# Altium footprint library AdMainFPLibG_1.0.PcbLib: 24 footprints (part 2 of 2)
Each footprint in its own frame and in the unit in brackets; x right, y up, seen from the top. Pads: shape width x height; smd on the part's side, far side on the other; paste and mask are expansions set on the pad; w line width, h text height; cw(c..) or ccw(c..) is an arc to the next point about the centre after c.
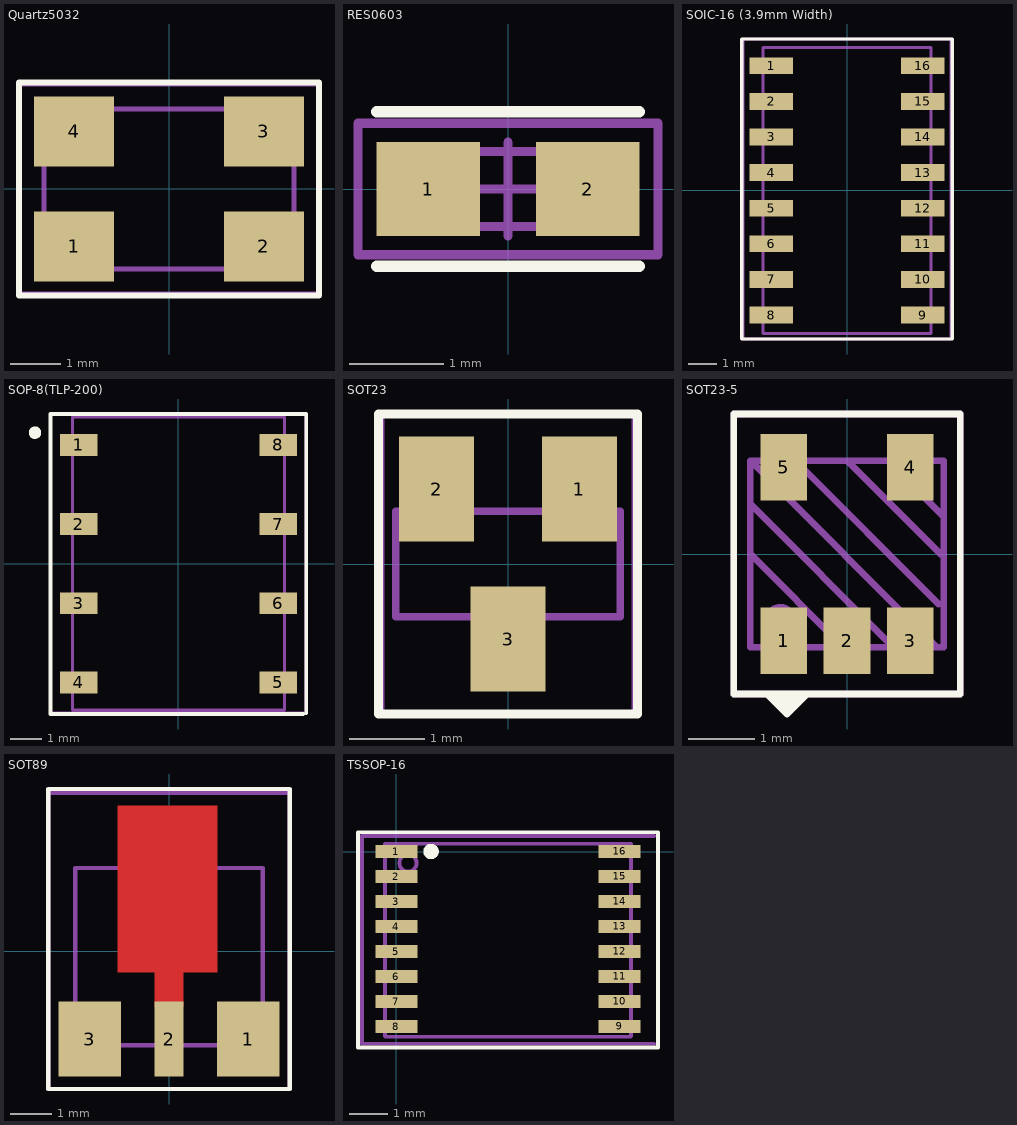
[diagram p1: the footprints below, top view; thin cyan lines are the x and y axes]

## Quartz5032 [mm] "WE-830055663"
height 1
pads (4):
  rect 1.6x1.4 smd: 1(-1.9,-1.15) 2(1.9,-1.15) 3(1.9,1.15) 4(-1.9,1.15)
Top Overlay:
  lines w0.12: -3,-2.125 3,-2.125 ; -3,-2.1 -3,2.125 3,2.125 3,-2.1
Top Assy:
  lines w0.1: -2.5,-1.6 2.5,-1.6 2.5,1.6 -2.5,1.6 -2.5,-1.6
Border:
  lines w0.1: -3,-2.1 3,-2.1 3,2.1 -3,2.1 -3,-2.1
3D body "User Library-CRYSTALSMD5X32.STEP": height 1, standoff 0, extent -2.5,-1.6 2.5,1.6

## RES0603 [mm]
pads (2):
  rect 1.1x1 smd: 1(-0.85,0) 2(0.85,0)
Top Overlay:
  lines w0.12: -1.4,-0.825 1.4,-0.825 ; -1.4,0.825 1.4,0.825
Top Assy:
  lines w0.1: -0.8,-0.4 0.8,-0.4 0.8,0.4 -0.8,0.4 -0.8,-0.4
Border:
  lines w0.1: -0.5,0 0.5,0 ; 0,-0.5 0,0.5 ; 0,-0.2 0,0.2 ; -1.6,-0.7 -1.6,0.7 1.6,0.7 1.6,-0.7 -1.6,-0.7
3D body "232270463169.stp": height 0.45, standoff 0, extent -0.8,-0.4 0.8,0.4

## SOIC-16 (3.9mm Width) [mm] "ADM3202ARNZ (0.154\", 3.90mm Width)"
pads (16):
  rect 1.55x0.6 smd: 1(-2.7,4.445) 2(-2.7,3.175) 3(-2.7,1.905) 4(-2.7,0.635) 5(-2.7,-0.635) 6(-2.7,-1.905) 7(-2.7,-3.175) 8(-2.7,-4.445) 9(2.7,-4.445) 10(2.7,-3.175) 11(2.7,-1.905) 12(2.7,-0.635) 13(2.7,0.635) 14(2.7,1.905) 15(2.7,3.175) 16(2.7,4.445)
Top Overlay:
  lines w0.12: -3.75,-5.3 -3.75,5.4 3.75,5.4 3.75,-5.3 -3.75,-5.3
Top Assy:
  lines w0.1: -3,-5.1 -3,5.1 3,5.1 3,-5.1 -3,-5.1
Border:
  lines w0.1: -3.7,-5.3 3.7,-5.3 3.7,5.4 -3.7,5.4 -3.7,-5.3
3D body "User Library-so16.STEP": height 1.7, standoff 0, extent -3,-5.1 3,5.1

## SOP-8(TLP-200) [mm]
pads (8):
  rect 1.2x0.7 smd: 1(-3.2,3.81) 2(-3.2,1.27) 3(-3.2,-1.27) 4(-3.2,-3.81) 5(3.2,-3.81) 6(3.2,-1.27) 7(3.2,1.27) 8(3.2,3.81)
Top Overlay:
  circle w0.2: c-4.6,4.2 r0.1
  lines w0.12: 4,-4.825 -4.1,-4.825 -4.1,4.8 4.1,4.8 4.1,-4.8
Top Assy:
  lines w0.1: -3.4,-4.7 -3.4,4.7 3.4,4.7 3.4,-4.7 -3.4,-4.7
Border:
  lines w0.1: -4.1,-4.8 4.1,-4.8 4.1,4.8 -4.1,4.8 -4.1,-4.8
3D body "User Library-sop8-2_54.STEP": height 2.05, standoff 0, extent -3.4,-4.7 3.4,4.7

## SOT23 [mm] "BC846"
pads (3):
  rect 1x1.4 smd: 1(0.95,1) 2(-0.95,1) 3(0,-1)
Top Overlay:
  lines w0.12: -1.725,-2 -1.725,2 1.725,2 1.725,-2 -1.725,-2
Top Assy:
  lines w0.1: -1.5,-0.7 1.5,-0.7 1.5,0.7 -1.5,0.7 -1.5,-0.7
Border:
  lines w0.1: -1.7,-2 -1.7,2 1.7,2 1.7,-2 -1.7,-2
3D body "CircuitWorks-SOT-23.STEP": height 1.1, standoff 0, extent -1.5,-1.25 1.5,1.25

## SOT23-5 [mm] "MIC5219-3.3BM5-TR"
pads (5):
  rect 0.7x1 smd: 1(-0.95,-1.3) 2(0,-1.3) 3(0.95,-1.3) 4(0.95,1.3) 5(-0.95,1.3)
Top Overlay:
  region: -1.2,-2.1 -0.9,-2.4 -0.6,-2.1
  lines w0.1: -1.2,-2.1 -0.9,-2.4 ; -0.6,-2.1 -0.9,-2.4 ; -1.7,-2.1 1.7,-2.1 1.7,2.1 -1.7,2.1 -1.7,-2.1 ; -1.7,-2.1 -1.7,-2.1 ; -0.9,-2.4 -0.9,-2.4 ; -0.9,-2.4 -0.9,-2.4 ; -0.9,-2.4 -0.9,-2.4
Top Assy:
  circle w0.2: c-1,-1 r0.15
  lines w0.1: -1.45,0 -0.05,-1.4 ; -1.45,0.75 0.7,-1.4 ; -0.776,1.4 1.374,-0.75 ; -0.25,1.4 0,1.4 1.4,0 ; 0.5,1.4 0.724,1.4 ; 0.612,1.4 1.45,0.562 ; 1.35,-1.4 -1.45,1.4 ; -1.45,1.4 1.45,1.4 1.45,-1.4 -1.45,-1.4 -1.45,1.4
Border:
  lines w0.1: -1.7,-2.1 1.7,-2.1 1.7,2.1 -1.7,2.1 -1.7,-2.1
3D body "CircuitWorks-SOT-23-5.STEP": height 1.05, standoff -0.05, extent -1.5,-1.25 1.5,1.25

## SOT89 [mm] "BC868 Transistor NPN"
pads (3):
  rect 1.5x1.8 smd: 1(1.9,-2.1) 3(-1.9,-2.1)
  rect 0.7x1.8 smd: 2(0,-2.1)
Top Layer:
  rectangle: -1.238,-0.5 1.162,3.5
  lines w0.7: 0,-1.275 0,-0.5
Top Overlay:
  lines w0.1: -2.9,-3.3 -2.9,3.9 2.9,3.9 2.9,-3.3 -2.9,-3.3
Top Assy:
  lines w0.1: -2.25,-2.25 -2.25,2 2.25,2 2.25,-2.25 -2.25,-2.25
Border:
  lines w0.1: -2.9,-3.3 2.9,-3.3 2.9,3.8 -2.9,3.8 -2.9,-3.3
3D body "User Library-SOT89-3.STEP": height 1.54, standoff 0, extent -2.25,-2.25 2.25,2

## TSSOP-16 [mm] "74AC138TTI"
pads (16):
  rect 1.1x0.35 smd: 1(0,0) 2(0,-0.65) 3(0,-1.3) 4(0,-1.95) 5(0,-2.6) 6(0,-3.25) 7(0,-3.9) 8(0,-4.55) 9(5.8,-4.55) 10(5.8,-3.9) 11(5.8,-3.25) 12(5.8,-2.6) 13(5.8,-1.95) 14(5.8,-1.3) 15(5.8,-0.65) 16(5.8,0)
Top Overlay:
  circle w0.2: c0.9,0 r0.1
  lines w0.1: -1,-5.1 6.8,-5.1 6.8,0.5 -1,0.5 -1,-5.1
Top Assy:
  circle w0.1: c0.3,-0.3 r0.224
  lines w0.1: -0.3,-4.8 -0.285,-4.815 6.085,-4.815 6.1,-4.8 6.1,0.2 -0.3,0.2 -0.3,-4.8
Border:
  lines w0.1: 6.7,-5 -0.9,-5 -0.9,0.4 6.7,0.4
3D body "User Library-TSSOP-16-1.STEP": height 1.1, standoff 0, extent -0.3,-4.775 6.1,0.225